# Altium schematic symbol library MB0057A.01.A.1.SchLib: 1 symbol
Pins are listed as number, name and electrical type; pins without a type are passive.

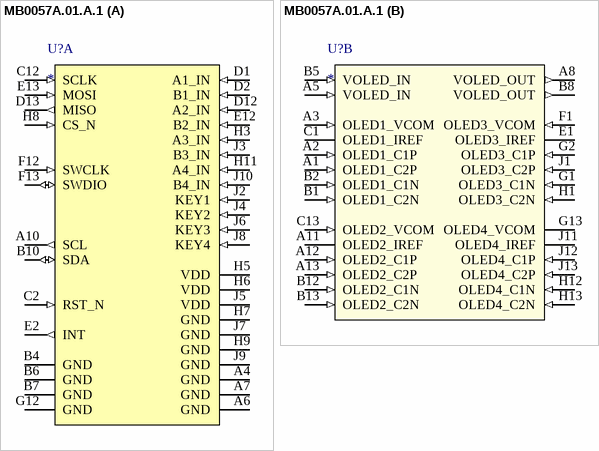
[diagram p0: symbol MB0057A.01.A.1]

## MB0057A.01.A.1
designator U?
part A pins: A4 GND (power), A6 GND (power), A7 GND (power), A10 SCL (out), B4 GND (power), B6 GND (power), B7 GND (power), B10 SDA (io), C2 RST_N (in), C12 SCLK (in), D1 A1_IN (in), D2 B1_IN (in), D12 A2_IN (in), D13 MISO (out), E2 INT (out), E12 B2_IN (in), E13 MOSI (in), F12 SWCLK (in), F13 SWDIO (io), G12 GND (power), H3 A3_IN (in), H5 VDD (power), H6 VDD (power), H7 GND (power), H8 CS_N (in), H9 GND (power), H11 A4_IN (in), J2 KEY1 (in), J3 B3_IN (in), J4 KEY2 (in), J5 VDD (power), J6 KEY3 (in), J7 GND (power), J8 KEY4 (in), J9 GND (power), J10 B4_IN (in)
part B pins: A1 OLED1_C2P (in), A2 OLED1_C1P (in), A3 OLED1_VCOM (in), A5 VOLED_IN (in), A8 VOLED_OUT (out), A11 OLED2_IREF, A12 OLED2_C1P (in), A13 OLED2_C2P (in), B1 OLED1_C2N (in), B2 OLED1_C1N (in), B5 VOLED_IN (in), B8 VOLED_OUT (out), B12 OLED2_C1N (in), B13 OLED2_C2N (in), C1 OLED1_IREF, C13 OLED2_VCOM (in), E1 OLED3_IREF, F1 OLED3_VCOM (in), G1 OLED3_C1N (in), G2 OLED3_C1P (in), G13 OLED4_VCOM (power), H1 OLED3_C2N (in), H12 OLED4_C1N (in), H13 OLED4_C2N (in), J1 OLED3_C2P (in), J11 OLED4_IREF, J12 OLED4_C1P (in), J13 OLED4_C2P (in)